# EAGLE library part AD724 (library 8Bit_Parts)
RGB to S-Video / Composite
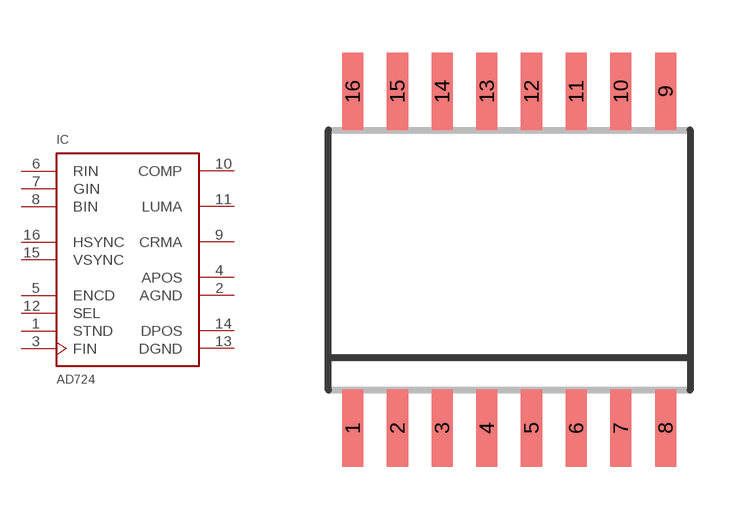
[diagram p17: symbol with the pads of SOIC16R; footprint SOIC16R]

Designator prefix IC

## AD724  [SOIC16R]
1  STND  in
2  AGND  pwr
3  FIN  in
4  APOS  pwr
5  ENCD  in
6  RIN  in
7  GIN  in
8  BIN  in
9  CRMA  out
10  COMP  out
11  LUMA  out
12  SEL  in
13  DGND  pwr
14  DPOS  pwr
15  VSYNC  in
16  HSYNC  in

## Footprint SOIC16R (pad centres in mm)
16-Lead SOIC (R) Package Source: http://www.analog.com/static/imported-files/data_sheets/AD745.pdf
smd 0.6 x 2.2: 1 -4.445,-4.775; 2 -3.175,-4.775; 3 -1.905,-4.775; 4 -0.635,-4.775; 5 0.635,-4.775; 6 1.905,-4.775; 7 3.175,-4.775; 8 4.445,-4.775; 9 4.445,4.8; 10 3.175,4.8; 11 1.905,4.8; 12 0.635,4.8; 13 -0.635,4.8; 14 -1.905,4.8; 15 -3.175,4.8; 16 -4.445,4.8